# EAGLE library part ISL8490EIBZ-T (library ISL8490EIBZ-T)
The ISL8488E, ISL8489E, ISL8490E, ISL8491E devices are ESD protected, BiCMOS, 5V powered, single transceivers that meet both the RS-485 and RS-422 standards for balanced communication. Each driver output and receiver input is protected against +/-15kV ESD strikes, without latch-up. Unlike competitive versions, these Intersil devices are specified for 10% tolerance supplies (4. 5V to 5. 5V). These devices are configured for full duplex (separate Rx input and Tx output pins) applications, so they are ideal for Source: Datasheet <https://www.renesas.com/en-us/www/doc/datasheet/isl8488e-89e-90e-91e.pdf>
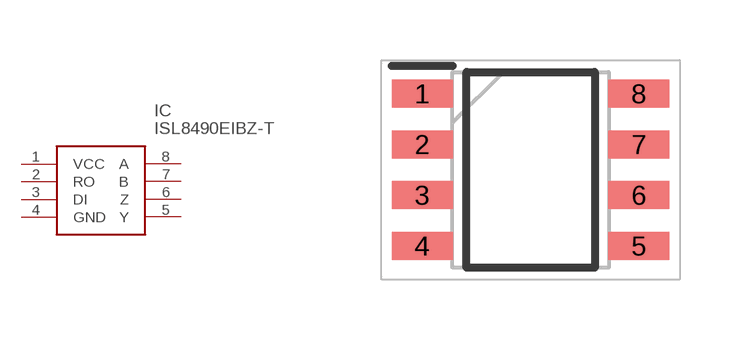
[diagram p0: symbol with the pads of SOIC127P600X175-8N; footprint SOIC127P600X175-8N]

Designator prefix IC

## ISL8490EIBZ-T (Description: The ISL8488E, ISL8489E, ISL8490E, ISL8491E devices are ESD protected, BiCMOS, 5V powered, single transceivers that meet both the RS-485 and RS-422 standards for balanced communication. Each driver output and receiver input is protected against +/-15kV ESD strikes, without latch-up. Unlike competitive versions, these Intersil devices are specified for 10% tolerance supplies (4. 5V to 5. 5V). These devices are configured for full duplex (separate Rx input and Tx output pins) applications, so they are ideal for; Height: 1.75mm; Manufacturer_Name: Renesas Electronics; Manufacturer_Part_Number: ISL8490EIBZ-T; Mouser_Part_Number: 968-ISL8490EIBZ-T; Mouser_Price-Stock: https://www.mouser.co.uk/ProductDetail/Renesas-Intersil/ISL8490EIBZ-T/?qs=dAsayXGOMruV4w9kYM7q7w%3D%3D)  [SOIC127P600X175-8N]
1  VCC
2  RO
3  DI
4  GND
5  Y
6  Z
7  B
8  A

## Footprint SOIC127P600X175-8N (pad centres in mm)
M8-15
smd 1.525 x 0.7: 1 -2.712,1.905; 2 -2.712,0.635; 3 -2.712,-0.635; 4 -2.712,-1.905; 5 2.712,-1.905; 6 2.712,-0.635; 7 2.712,0.635; 8 2.712,1.905